# Altium schematic symbol library ISL8117.SchLib: 1 symbol
Pins are listed as number, name and electrical type; pins without a type are passive.

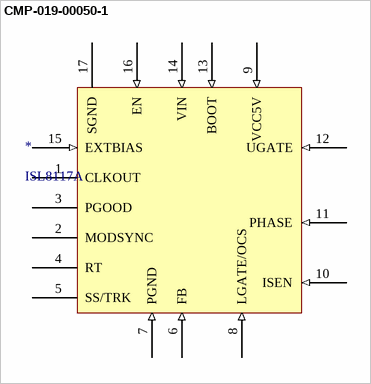
[diagram p0: symbol CMP-019-00050-1]

## CMP-019-00050-1
designator *, comment ISL8117A
footprint QFN50P400X400X80_HS-17N (QFN, 16-Leads, Body 4.00x4.00mm, Pitch 0.50mm, Thermal Pad 2.40x2.40mm, IPC Medium Density)
pins: 1 CLKOUT, 2 MODSYNC, 3 PGOOD, 4 RT, 5 SS/TRK, 6 FB (in), 7 PGND (in), 8 LGATE/OCS (in), 9 VCC5V (in), 10 ISEN (in), 11 PHASE (in), 12 UGATE (in), 13 BOOT (in), 14 VIN (in), 15 EXTBIAS (in), 16 EN (in), 17 SGND (power)